# EAGLE library part ABX00028 (library ARDUINO-NANO)
Development Boards & Kits - AVR Arduino Nano Every Source: Datasheet <https://store.arduino.cc/arduino-nano-every>
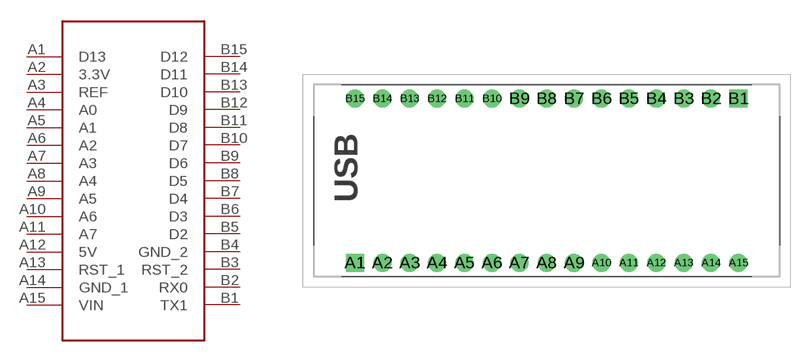
[diagram p0: symbol with the pads of ABX00028; footprint ABX00028]

Designator prefix IC

## ABX00028 (ARROW_PART_NUMBER: ABX00028; ARROW_PRICE-STOCK: https://www.arrow.com/en/products/abx00028/arduino-corporation?region=nac; DESCRIPTION: Development Boards & Kits - AVR Arduino Nano Every; HEIGHT: 10mm; MANUFACTURER_NAME: Arduino; MANUFACTURER_PART_NUMBER: ABX00028; MOUSER_PART_NUMBER: 782-ABX00028; MOUSER_PRICE-STOCK: https://www.mouser.co.uk/ProductDetail/Arduino/ABX00028?qs=PzGy0jfpSMtit6rnFl8mVg%3D%3D)  [ABX00028]
A1  D13
A2  3.3V
A3  REF
A4  A0
A5  A1
A6  A2
A7  A3
A8  A4
A9  A5
A10  A6
A11  A7
A12  5V
A13  RST_1
A14  GND_1
A15  VIN
B1  TX1
B2  RX0
B3  RST_2
B4  GND_2
B5  D2
B6  D3
B7  D4
B8  D5
B9  D6
B10  D7
B11  D8
B12  D9
B13  D10
B14  D11
B15  D12

## Footprint ABX00028 (pad centres in mm)
ABX00028
drill 1.11 pad 1.665 square: A1 0,0; B1 35.56,15.24
drill 1.11 pad 1.665: A2 2.54,0; A3 5.08,0; A4 7.62,0; A5 10.16,0; A6 12.7,0; A7 15.24,0; A8 17.78,0; A9 20.32,0; A10 22.86,0; A11 25.4,0; A12 27.94,0; A13 30.48,0; A14 33.02,0; A15 35.56,0; B2 33.02,15.24; B3 30.48,15.24; B4 27.94,15.24; B5 25.4,15.24; B6 22.86,15.24; B7 20.32,15.24; B8 17.78,15.24; B9 15.24,15.24; B10 12.7,15.24; B11 10.16,15.24; B12 7.62,15.24; B13 5.08,15.24; B14 2.54,15.24; B15 0,15.24